# Altium footprint library Components - 05.08.25 - 14.12.PcbLib: 1 footprints
Each footprint in its own frame and in the unit in brackets; x right, y up, seen from the top. Pads: shape width x height; smd on the part's side, far side on the other; paste and mask are expansions set on the pad; w line width, h text height; cw(c..) or ccw(c..) is an arc to the next point about the centre after c.
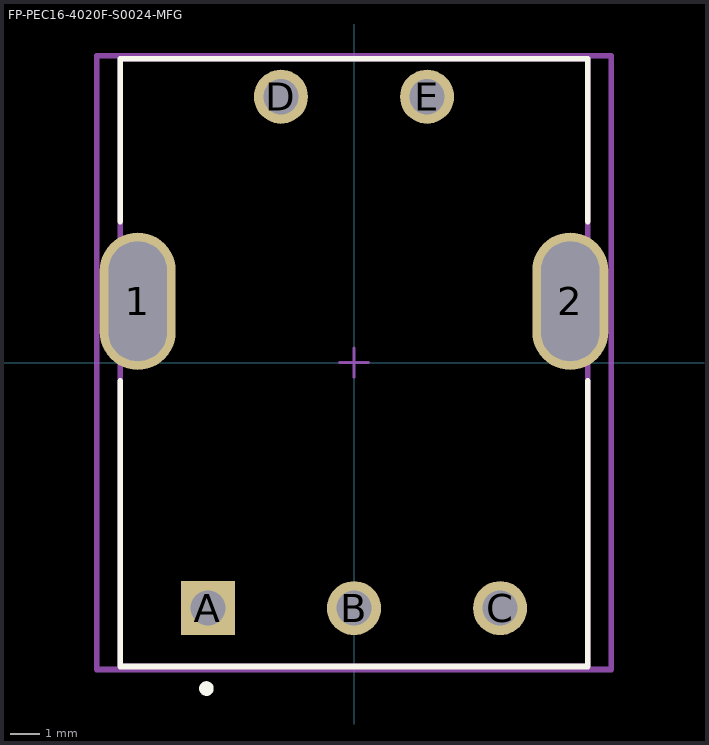
[diagram p0: the footprint, top view; thin cyan lines are the x and y axes]

## FP-PEC16-4020F-S0024-MFG [mm]
pads (7):
  rrect100% 2.6x4.7 hole 4.1 slot 2 at 0 deg paste-2539.97 mask+0: 1(-7.4,2.1) 2(7.4,2.1)
  rect 1.85x1.85 hole 1.2 paste-2539.97 mask+0: A(-5,-8.4)
  round 1.85 hole 1.2 paste-2539.97 mask+0: B(0,-8.4) C(5,-8.4) D(-2.5,9.1) E(2.5,9.1)
Top Overlay:
  circle w0.25: c-5.05,-11.15 r0.125
  lines w0.2: -8,-0.625 -8,-10.4 8,-10.4 8,-0.625 ; -8,4.825 -8,10.4 8,10.4 8,4.825
Top Assembly:
  lines w0.2: -8.8,-10.5 -8.8,10.5 8.8,10.5 8.8,-10.5 -8.8,-10.5
  text ".Designator" at 0,0.188 h1
Top 3D Body:
  lines w0.2: -8,-10.4 -8,10.4 8,10.4 8,-10.4 -8,-10.4
Top Courtyard:
  lines w0.2: -8.8,-10.5 -8.8,10.5 8.8,10.5 8.8,-10.5 -8.8,-10.5
Top Component Center:
  lines w0.1: -0.5,0 0.5,0 ; 0,-0.5 0,0.5
3D body "Enc_Bourns_Inc_PEC16-4020F-S0024_eec.STEP": height 0.25, standoff 0, extent -8.8,-10.5 8.8,10.5